# Altium footprint library MyLib.PcbLib: 105 footprints (part 2 of 7)
Each footprint in its own frame and in the unit in brackets; x right, y up, seen from the top. Pads: shape width x height; smd on the part's side, far side on the other; paste and mask are expansions set on the pad; w line width, h text height; cw(c..) or ccw(c..) is an arc to the next point about the centre after c.
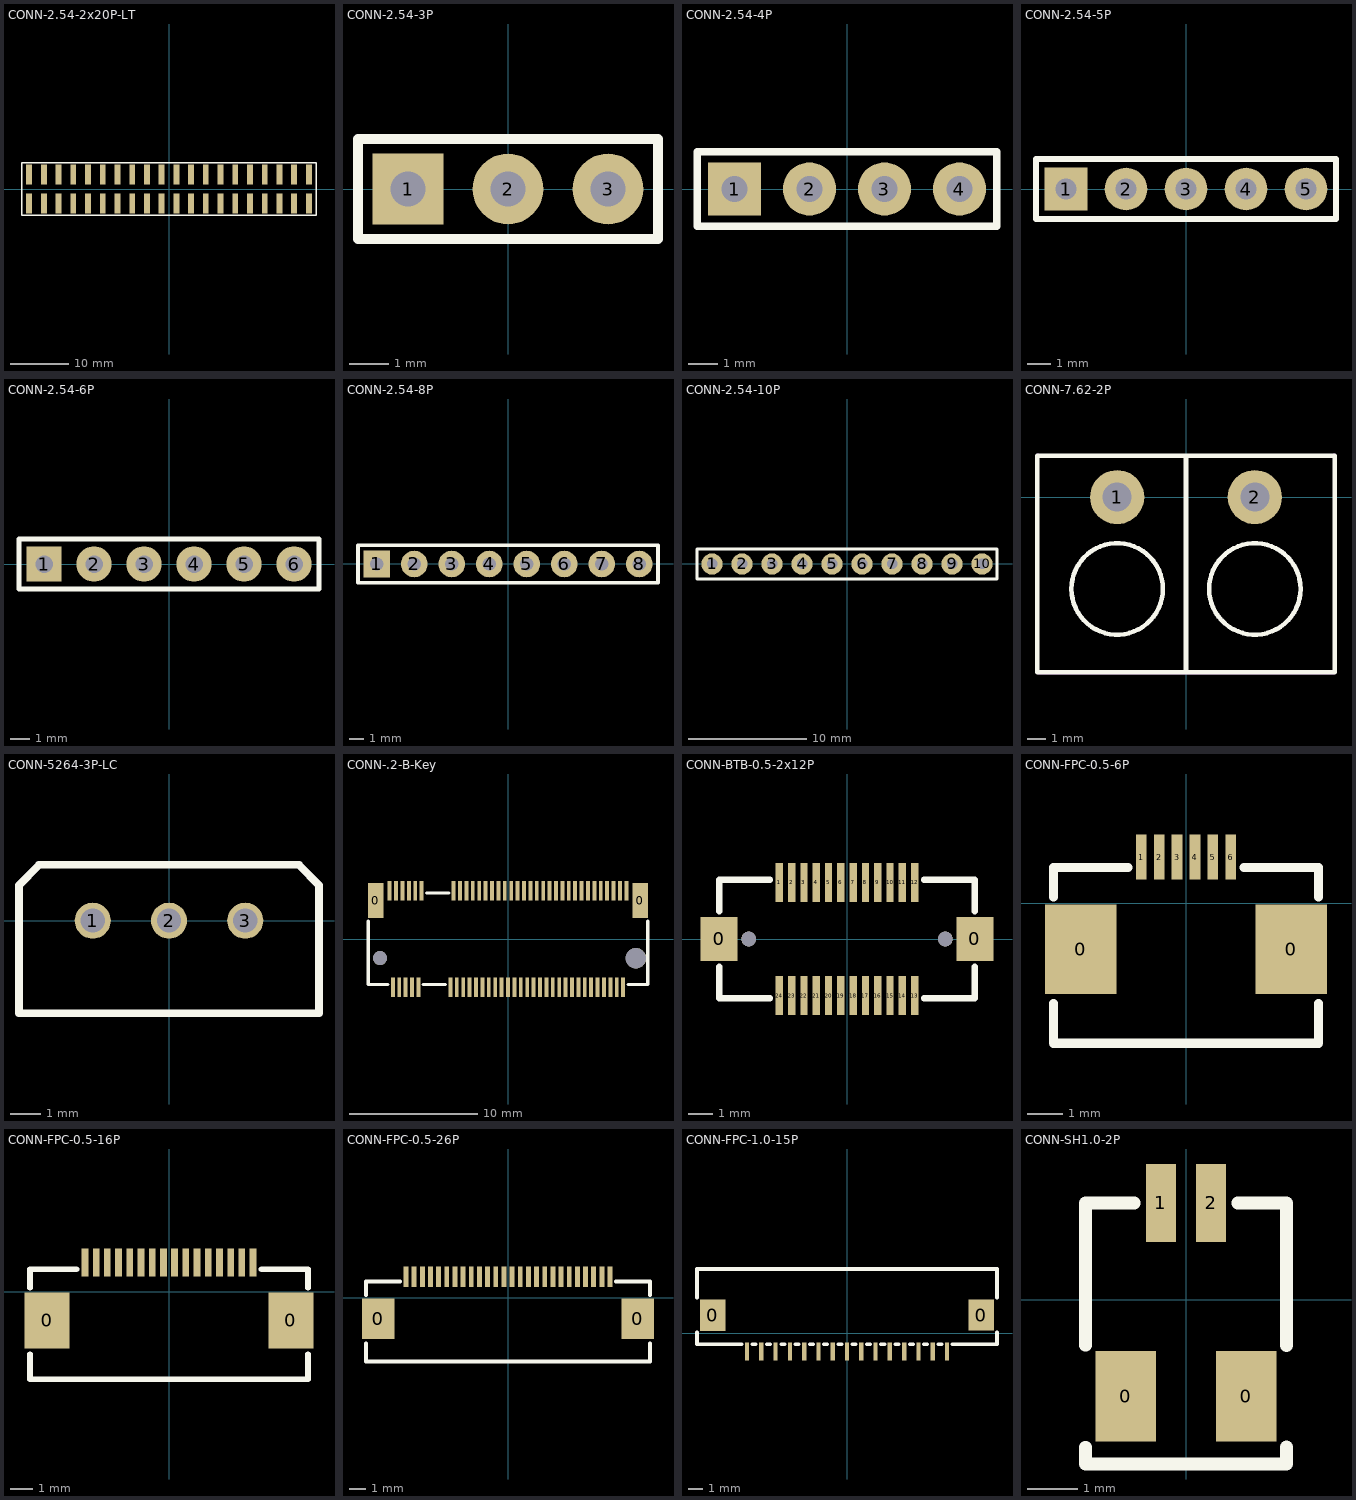
[diagram p1: the footprints below, top view; thin cyan lines are the x and y axes]

## CONN-2.54-2x20P-LT [mm]
pads (40):
  rect 1x3.5 smd: 1(-24.13,2.5) 2(-24.13,-2.5) 3(-21.59,2.5) 4(-21.59,-2.5) 5(-19.05,2.5) 6(-19.05,-2.5) 7(-16.51,2.5) 8(-16.51,-2.5) 9(-13.97,2.5) 10(-13.97,-2.5) 11(-11.43,2.5) 12(-11.43,-2.5) 13(-8.89,2.5) 14(-8.89,-2.5) 15(-6.35,2.5) 16(-6.35,-2.5) 17(-3.81,2.5) 18(-3.81,-2.5) 19(-1.27,2.5) 20(-1.27,-2.5) 21(1.27,2.5) 22(1.27,-2.5) 23(3.81,2.5) 24(3.81,-2.5) 25(6.35,2.5) 26(6.35,-2.5) 27(8.89,2.5) 28(8.89,-2.5) 29(11.43,2.5) 30(11.43,-2.5) 31(13.97,2.5) 32(13.97,-2.5) 33(16.51,2.5) 34(16.51,-2.5) 35(19.05,2.5) 36(19.05,-2.5) 37(21.59,2.5) 38(21.59,-2.5) 39(24.13,2.5) 40(24.13,-2.5)
Top Overlay:
  lines w0.254: -25.4,-4.5 -25.4,4.5 25.4,4.5 25.4,-4.5 -25.4,-4.5

## CONN-2.54-3P [mm]
pads (3):
  rect 1.8x1.8 hole 0.889: 1(-2.54,0)
  round 1.8 hole 0.889: 2(0,0) 3(2.54,0)
Top Overlay:
  lines w0.254: -3.81,-1.27 -3.81,1.27 3.81,1.27 3.81,-1.27 -3.81,-1.27

## CONN-2.54-4P [mm]
pads (4):
  rect 1.8x1.8 hole 0.889: 1(-3.81,0)
  round 1.8 hole 0.889: 2(-1.27,0) 3(1.27,0) 4(3.81,0)
Top Overlay:
  lines w0.254: -5.08,-1.27 -5.08,1.27 5.08,1.27 5.08,-1.27 -5.08,-1.27

## CONN-2.54-5P [mm]
pads (5):
  rect 1.8x1.8 hole 0.889: 1(-5.08,0)
  round 1.8 hole 0.889: 2(-2.54,0) 3(0,0) 4(2.54,0) 5(5.08,0)
Top Overlay:
  lines w0.254: -6.35,-1.27 -6.35,1.27 6.35,1.27 6.35,-1.27 -6.35,-1.27

## CONN-2.54-6P [mm]
pads (6):
  rect 1.8x1.8 hole 0.889: 1(-6.35,0)
  round 1.8 hole 0.889: 2(-3.81,0) 3(-1.27,0) 4(1.27,0) 5(3.81,0) 6(6.35,0)
Top Overlay:
  lines w0.254: -7.62,-1.27 7.62,-1.27 7.62,1.27 -7.62,1.27 -7.62,-1.27

## CONN-2.54-8P [mm]
pads (8):
  rect 1.8x1.8 hole 0.889: 1(-8.89,0)
  round 1.8 hole 0.889: 2(-6.35,0) 3(-3.81,0) 4(-1.27,0) 5(1.27,0) 6(3.81,0) 7(6.35,0) 8(8.89,0)
Top Overlay:
  lines w0.254: -10.16,-1.27 10.16,-1.27 10.16,1.27 -10.16,1.27 -10.16,-1.27

## CONN-2.54-10P [mm]
pads (10):
  round 1.8 hole 0.889: 1(-11.43,0) 2(-8.89,0) 3(-6.35,0) 4(-3.81,0) 5(-1.27,0) 6(1.27,0) 7(3.81,0) 8(6.35,0) 9(8.89,0) 10(11.43,0)
Top Overlay:
  lines w0.254: -12.7,-1.27 -12.7,1.27 12.7,1.27 12.7,-1.27 -12.7,-1.27

## CONN-7.62-2P [mm]
pads (2):
  round 3 hole 1.6: 1(-3.81,0) 2(3.81,0)
Top Overlay:
  circle w0.254: c-3.81,-5.08 r2.53
  circle w0.254: c3.81,-5.08 r2.53
  lines w0.254: 0,-9.7 0,2.159 ; -8.22,-9.7 -8.22,2.3 8.22,2.3 8.22,-9.7 -8.22,-9.7
Mechanical 6:
  region: 8.14,2.22 8.14,-9.63 0.03,-9.63 0,-9.6 0,-9.8 8.2,-9.8 8.3,-9.7 8.3,2.35 8.25,2.4 8.15,2.4
  region: -8.14,2.22 -8.14,-9.63 -0.03,-9.63 0,-9.6 0,-9.8 -8.2,-9.8 -8.3,-9.7 -8.3,2.35 -8.25,2.4 -8.15,2.4
Mechanical 15:
  region: -8.16,-9.7 -8.16,-9.675 -8.195,-9.64 -8.245,-9.64 -8.28,-9.675 -8.28,-9.7 -8.28,-9.725 -8.245,-9.76 -8.195,-9.76 -8.16,-9.725
  lines w0.051: -8.22,-9.7 8.22,-9.7 8.22,2.3 -8.22,2.3 -8.22,-9.7

## CONN-5264-3P-LC [mm]
pads (3):
  round 1.2 hole 0.8: 1(-2.54,0) 2(0,0) 3(2.54,0)
Top Overlay:
  lines w0.254: -4.34,1.841 -4.997,1.184 -4.997,-3.084 4.997,-3.084 4.997,1.184 4.34,1.841 ; -4.34,1.86 4.34,1.86

## CONN-.2-B-Key [mm]
pads (71):
  rect 1.2x2.75 smd: 0(-10.35,3) 0(10.35,3)
  rect 0.3x1.55 smd: 1(-9.25,3.775) 2(-9,-3.775) 3(-8.75,3.775) 4(-8.5,-3.775) 5(-8.25,3.775) 6(-8,-3.775) 7(-7.75,3.775) 8(-7.5,-3.775) 9(-7.25,3.775) 10(-7,-3.775) 11(-6.75,3.775) 20(-4.5,-3.775) 21(-4.25,3.775) 22(-4,-3.775) 23(-3.75,3.775) 24(-3.5,-3.775) 25(-3.25,3.775) 26(-3,-3.775) 27(-2.75,3.775) 28(-2.5,-3.775) 29(-2.25,3.775) 30(-2,-3.775) 31(-1.75,3.775) 32(-1.5,-3.775) 33(-1.25,3.775) 34(-1,-3.775) 35(-0.75,3.775) 36(-0.5,-3.775) 37(-0.25,3.775) 38(0,-3.775) 39(0.25,3.775) 40(0.5,-3.775) 41(0.75,3.775) 42(1,-3.775) 43(1.25,3.775) 44(1.5,-3.775) 45(1.75,3.775) 46(2,-3.775) 47(2.25,3.775) 48(2.5,-3.775) 49(2.75,3.775) 50(3,-3.775) 51(3.25,3.775) 52(3.5,-3.775) 53(3.75,3.775) 54(4,-3.775) 55(4.25,3.775) 56(4.5,-3.775) 57(4.75,3.775) 58(5,-3.775) 59(5.25,3.775) 60(5.5,-3.775) 61(5.75,3.775) 62(6,-3.775) 63(6.25,3.775) 64(6.5,-3.775) 65(6.75,3.775) 66(7,-3.775) 67(7.25,3.775) 68(7.5,-3.775) 69(7.75,3.775) 70(8,-3.775) 71(8.25,3.775) 72(8.5,-3.775) 73(8.75,3.775) 74(9,-3.775) 75(9.25,3.775)
  round 1.1 hole 1.1 unplated: ""(-10,-1.5)
  round 1.6 hole 1.6 unplated: ""(10,-1.5)
Top Overlay:
  lines w0.254: -10.925,1.394 -10.925,-3.55 -9.381,-3.55 ; -6.619,-3.55 -4.881,-3.55 ; -6.369,3.6 -4.631,3.6 ; 9.381,-3.55 10.925,-3.55 10.925,1.395
Mechanical 15:
  circle w0.5: c-10,-1.5 r0.25
  circle w0.75: c10,-1.5 r0.375

## CONN-BTB-0.5-2x12P [mm]
pads (28):
  rect 1.5x1.8 smd: 0(-5.2,0) 0(5.2,0)
  rect 0.3x1.6 smd: 1(-2.75,2.3) 2(-2.25,2.3) 3(-1.75,2.3) 4(-1.25,2.3) 5(-0.75,2.3) 6(-0.25,2.3) 7(0.25,2.3) 8(0.75,2.3) 9(1.25,2.3) 10(1.75,2.3) 11(2.25,2.3) 12(2.75,2.3) 13(2.75,-2.3) 14(2.25,-2.3) 15(1.75,-2.3) 16(1.25,-2.3) 17(0.75,-2.3) 18(0.25,-2.3) 19(-0.25,-2.3) 20(-0.75,-2.3) 21(-1.25,-2.3) 22(-1.75,-2.3) 23(-2.25,-2.3) 24(-2.75,-2.3)
  round 0.6 hole 0.6 unplated: ""(-4,0) ""(4,0)
Top Overlay:
  lines w0.254: -5.199,-1.131 -5.199,-2.413 -3.131,-2.413 ; -5.199,1.131 -5.199,2.413 -3.131,2.413 ; 3.131,-2.413 5.199,-2.413 5.199,-1.131 ; 3.131,2.413 5.199,2.413 5.199,1.131
Mechanical 15:
  circle w0.25: c4,0 r0.125
  circle w0.25: c-4,0 r0.125

## CONN-FPC-0.5-6P [mm]
pads (8):
  rect 2x2.5 smd mask+0.051: 0(-2.94,-1.288) 0(2.94,-1.288)
  rect 0.3x1.25 smd mask+0.051: 1(-1.25,1.288) 2(-0.75,1.288) 3(-0.25,1.288) 4(0.25,1.288) 5(0.75,1.288) 6(1.25,1.288)
Top Overlay:
  lines w0.254: -3.7,-2.8 -3.7,-3.912 3.7,-3.912 3.7,-2.8 ; -3.7,0.175 -3.7,1 -1.625,1 ; 1.625,1 3.7,1 3.7,0.175

## CONN-FPC-0.5-16P [mm]
pads (18):
  rect 2x2.5 smd mask+0.051: 0(-5.44,-1.288) 0(5.44,-1.288)
  rect 0.3x1.25 smd mask+0.051: 1(-3.75,1.288) 2(-3.25,1.288) 3(-2.75,1.288) 4(-2.25,1.288) 5(-1.75,1.288) 6(-1.25,1.288) 7(-0.75,1.288) 8(-0.25,1.288) 9(0.25,1.288) 10(0.75,1.288) 11(1.25,1.288) 12(1.75,1.288) 13(2.25,1.288) 14(2.75,1.288) 15(3.25,1.288) 16(3.75,1.288)
Top Overlay:
  lines w0.254: -6.2,-2.8 -6.2,-3.912 6.2,-3.912 6.2,-2.8 ; -6.2,0.175 -6.2,1 -4.125,1 ; 4.125,1 6.2,1 6.2,0.175

## CONN-FPC-0.5-26P [mm]
pads (28):
  rect 2x2.5 smd mask+0.051: 0(-7.94,-1.288) 0(7.94,-1.288)
  rect 0.3x1.25 smd mask+0.051: 1(-6.25,1.288) 2(-5.75,1.288) 3(-5.25,1.288) 4(-4.75,1.288) 5(-4.25,1.288) 6(-3.75,1.288) 7(-3.25,1.288) 8(-2.75,1.288) 9(-2.25,1.288) 10(-1.75,1.288) 11(-1.25,1.288) 12(-0.75,1.288) 13(-0.25,1.288) 14(0.25,1.288) 15(0.75,1.288) 16(1.25,1.288) 17(1.75,1.288) 18(2.25,1.288) 19(2.75,1.288) 20(3.25,1.288) 21(3.75,1.288) 22(4.25,1.288) 23(4.75,1.288) 24(5.25,1.288) 25(5.75,1.288) 26(6.25,1.288)
Top Overlay:
  lines w0.254: -8.7,-2.8 -8.7,-3.912 8.7,-3.912 8.7,-2.8 ; -8.7,0.175 -8.7,1 -6.625,1 ; 6.625,1 8.7,1 8.7,0.175

## CONN-FPC-1.0-15P [mm]
pads (17):
  rect 1.8x2.2 smd mask+0.102: 0(-9.403,1.276) 0(9.397,1.279)
  rect 0.3x1.25 smd mask+0.102: 1(-7,-1.276) 2(-6,-1.276) 3(-5,-1.276) 4(-4,-1.276) 5(-3,-1.276) 6(-2,-1.276) 7(-1,-1.276) 8(0,-1.276) 9(1,-1.274) 10(2,-1.274) 11(3,-1.274) 12(4,-1.274) 13(5,-1.274) 14(6,-1.271) 15(7,-1.271)
Top Overlay:
  lines w0.254: -10.501,0.06 -10.501,-0.774 -7.381,-0.774 ; -10.501,2.493 -10.501,4.5 10.498,4.5 ; -6.619,-0.774 -6.381,-0.774 ; -5.619,-0.774 -5.383,-0.774 ; -4.618,-0.774 -4.381,-0.774 ; -3.619,-0.774 -3.381,-0.774 ; -2.619,-0.774 -2.381,-0.774 ; -1.619,-0.774 -1.381,-0.774 ; -0.619,-0.774 -0.381,-0.774 ; 0.381,-0.774 0.619,-0.774 ; 1.381,-0.774 1.619,-0.774 ; 2.381,-0.774 2.619,-0.774 ; 3.381,-0.774 3.619,-0.774 ; 4.381,-0.774 4.619,-0.774 ; 5.381,-0.774 5.619,-0.774 ; 6.381,-0.774 6.619,-0.774 ; 7.381,-0.771 10.498,-0.771 10.498,0.067 ; 10.498,2.491 10.498,4.502
Mechanical 15:
  lines w0.051: -10.453,4.6 5.447,4.6

## CONN-SH1.0-2P [mm]
pads (4):
  rect 1.2x1.8 smd mask+0.102: 0(-1.201,-1.924) 0(1.201,-1.924)
  rect 0.6x1.55 smd mask+0.102: 1(-0.498,1.924) 2(0.501,1.924)
Top Overlay:
  lines w0.254: -2,-2.94 -2,-3.274 2.001,-3.274 2.001,-2.936 ; -2,-0.909 -2,1.923 -1.03,1.923 ; 1.033,1.923 2.001,1.923 2.001,-0.913